# Altium schematic symbol library kmilo17pet-LT_OpAmp_LT1000.SchLib: 2280 symbols (part 27 of 79)
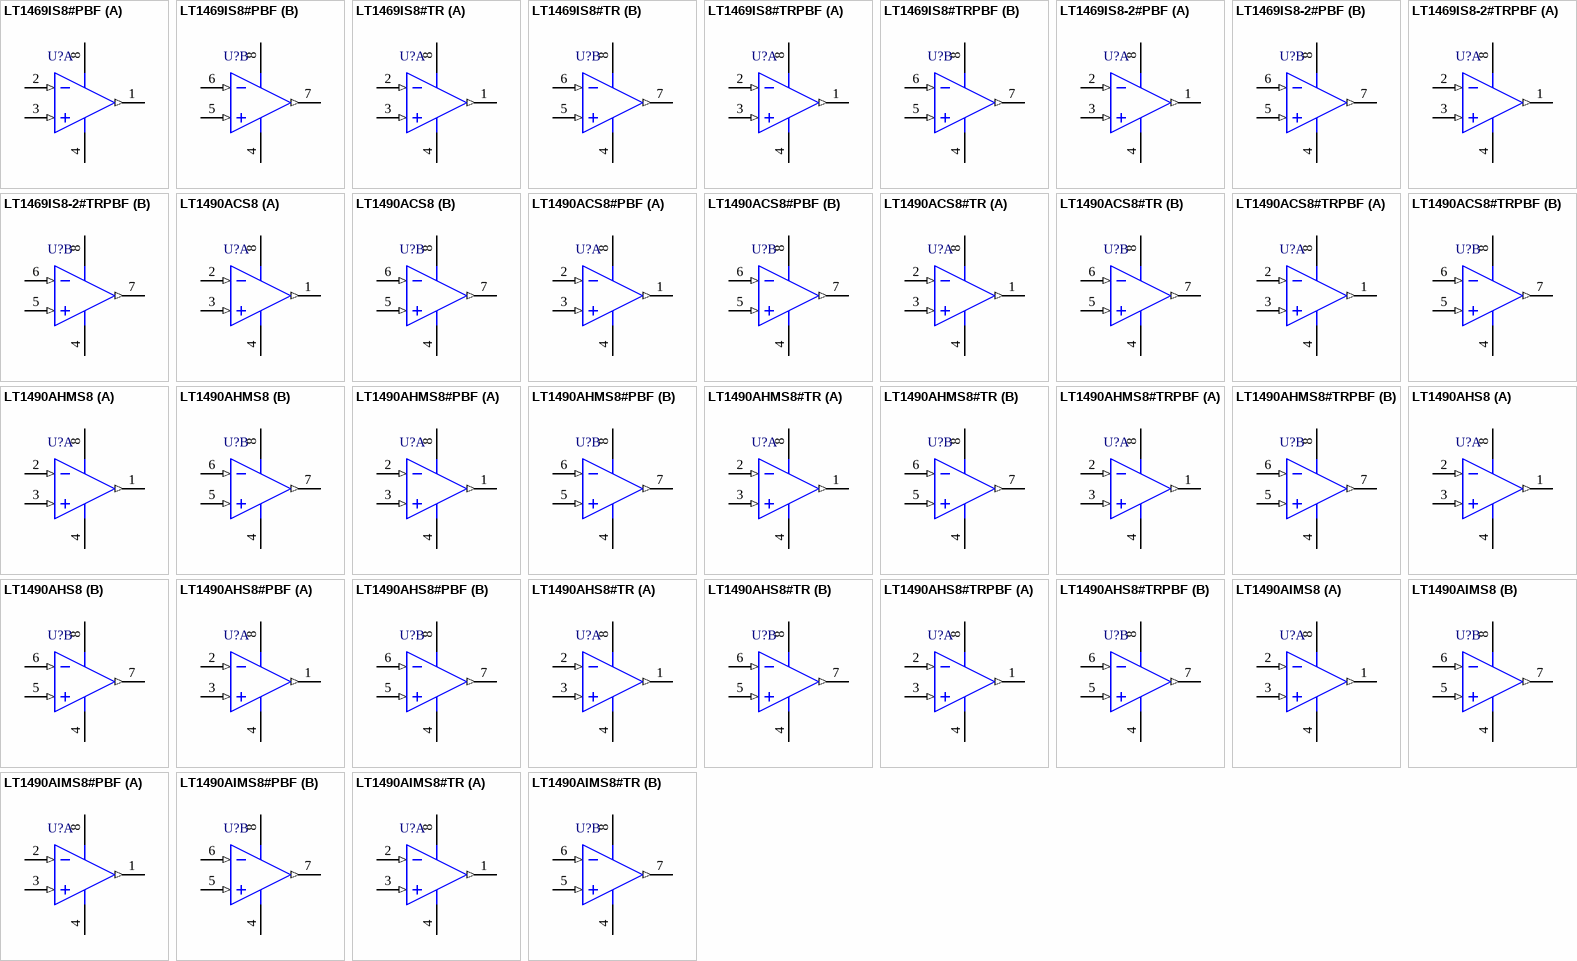
[diagram p131: symbols LT1469IS8#PBF to LT1490AIMS8#TR]

## LT1490ACS8#TRPBF
designator U?
Dual Channel, Operational Amplifier, RRIO, Over-The-Top, 0.18 MHz Typical GBW, 0.06 V/us Typical SR, 2 to 44 V, 8-Pin SOIC (S8-8), Commercial, Pb-Free, Reel; Linear Technology Part Number: LT1490A; Manufacturer: Linear Technology; PartNumber: LT1490ACS8#TRPBF; Channels (#): 2; GBW (MHz) Typical: 0.18; Is (mA) Typical: 0.04; SR (V/us) Typical: 0.06; Vos (mV) Typical: 0.11; Vs Max (V): 44; DatasheetVersion: Rev. D; PackageVersion: Rev G; PackageReference: LT-S8-8; PackageDescription: 8-Pin Plastic Small Outline, Body 4.9 x 3.9 mm, Pitch 1.27 mm; Supplier 1: Digi-Key; Supplier Part Number 1: LT1490ACS8#TRPBFTR-ND; Supplier 2: Digi-Key; Supplier Part Number 2: LT1490ACS8#TRPBFCT-ND; Supplier 3: Digi-Key; Supplier Part Number 3: LT1490ACS8#TRPBFDKR-ND; Supplier 4: Newark; Supplier Part Number 4: 57M4412; Packing: Reel; RoHS: Pb-Free; Type: VFB; Vs Min (V): 2; Mounting Technology: Surface Mount; ComponentLink1Description: Manufacturer URL; ComponentLink1URL: http://www.linear.com/; ComponentLink2Description: Datasheet; ComponentLink2URL: http://cds.linear.com/docs/en/datasheet/14901afd.pdf; ComponentLink3Description: Package Specification; ComponentLink3URL: http://cds.linear.com/docs/en/packaging/05081610_G_SO8.pdf
footprint LT-S8-8_N (SOIC, 8-Leads, Body 4.9x3.9mm, Pitch 1.27mm, IPC Medium Density)
footprint LT-S8-8_L (SOIC, 8-Leads, Body 4.9x3.9mm, Pitch 1.27mm, IPC High Density)
footprint LT-S8-8_M (SOIC, 8-Leads, Body 4.9x3.9mm, Pitch 1.27mm, IPC Low Density)
pins on every part: 4 V- (power), 8 V+ (power)
part A pins: 1 OUT A (out), 2 -IN A (in), 3 +IN A (in)
part B pins: 5 +IN B (in), 6 -IN B (in), 7 OUT B (out)

## LT1490AHMS8
designator U?
Dual Channel, Operational Amplifier, RRIO, Over-The-Top, 0.18 MHz Typical GBW, 0.06 V/us Typical SR, 2 to 44 V, 8-Pin SOP (MS8-8), High Temperature / Automotive; Linear Technology Part Number: LT1490A; Manufacturer: Linear Technology; PartNumber: LT1490AHMS8; Channels (#): 2; GBW (MHz) Typical: 0.18; Is (mA) Typical: 0.04; SR (V/us) Typical: 0.06; Vos (mV) Typical: 0.11; Vs Max (V): 44; DatasheetVersion: Rev. D; PackageVersion: Rev G; PackageReference: LT-MS8-8; PackageDescription: 8-Lead Plastic Small Outline, Body 3.9 x 4.9 mm, Pitch 1.27 mm; Supplier 1: Digi-Key; Supplier Part Number 1: LT1490AHMS8-ND; Type: VFB; Vs Min (V): 2; Mounting Technology: Surface Mount; ComponentLink1Description: Manufacturer URL; ComponentLink1URL: http://www.linear.com/; ComponentLink2Description: Datasheet; ComponentLink2URL: http://cds.linear.com/docs/en/datasheet/14901afd.pdf; ComponentLink3Description: Package Specification; ComponentLink3URL: http://cds.linear.com/docs/en/packaging/05081610_G_SO8.pdf
footprint LT-MS8-8_N (SOP, 8-Leads, Body 3x3mm, Pitch 0.65mm, IPC Medium Density)
footprint LT-MS8-8_L (SOP, 8-Leads, Body 3x3mm, Pitch 0.65mm, IPC High Density)
footprint LT-MS8-8_M (SOP, 8-Leads, Body 3x3mm, Pitch 0.65mm, IPC Low Density)
pins on every part: 4 V- (power), 8 V+ (power)
part A pins: 1 OUT A (out), 2 -IN A (in), 3 +IN A (in)
part B pins: 5 +IN B (in), 6 -IN B (in), 7 OUT B (out)

## LT1490AHMS8#PBF
designator U?
Dual Channel, Operational Amplifier, RRIO, Over-The-Top, 0.18 MHz Typical GBW, 0.06 V/us Typical SR, 2 to 44 V, 8-Pin SOP (MS8-8), High Temperature / Automotive, Pb-Free; Linear Technology Part Number: LT1490A; Manufacturer: Linear Technology; PartNumber: LT1490AHMS8#PBF; Channels (#): 2; GBW (MHz) Typical: 0.18; Is (mA) Typical: 0.04; SR (V/us) Typical: 0.06; Vos (mV) Typical: 0.11; Vs Max (V): 44; DatasheetVersion: Rev. D; PackageVersion: Rev G; PackageReference: LT-MS8-8; PackageDescription: 8-Lead Plastic Small Outline, Body 3.9 x 4.9 mm, Pitch 1.27 mm; Supplier 1: Digi-Key; Supplier Part Number 1: LT1490AHMS8#PBF-ND; Supplier 2: Newark; Supplier Part Number 2: 57M4414; RoHS: Pb-Free; Type: VFB; Vs Min (V): 2; Mounting Technology: Surface Mount; ComponentLink1Description: Manufacturer URL; ComponentLink1URL: http://www.linear.com/; ComponentLink2Description: Datasheet; ComponentLink2URL: http://cds.linear.com/docs/en/datasheet/14901afd.pdf; ComponentLink3Description: Package Specification; ComponentLink3URL: http://cds.linear.com/docs/en/packaging/05081610_G_SO8.pdf
footprint LT-MS8-8_N (SOP, 8-Leads, Body 3x3mm, Pitch 0.65mm, IPC Medium Density)
footprint LT-MS8-8_L (SOP, 8-Leads, Body 3x3mm, Pitch 0.65mm, IPC High Density)
footprint LT-MS8-8_M (SOP, 8-Leads, Body 3x3mm, Pitch 0.65mm, IPC Low Density)
pins on every part: 4 V- (power), 8 V+ (power)
part A pins: 1 OUT A (out), 2 -IN A (in), 3 +IN A (in)
part B pins: 5 +IN B (in), 6 -IN B (in), 7 OUT B (out)

## LT1490AHMS8#TR
designator U?
Dual Channel, Operational Amplifier, RRIO, Over-The-Top, 0.18 MHz Typical GBW, 0.06 V/us Typical SR, 2 to 44 V, 8-Pin SOP (MS8-8), High Temperature / Automotive, Reel; Linear Technology Part Number: LT1490A; Manufacturer: Linear Technology; PartNumber: LT1490AHMS8#TR; Channels (#): 2; GBW (MHz) Typical: 0.18; Is (mA) Typical: 0.04; SR (V/us) Typical: 0.06; Vos (mV) Typical: 0.11; Vs Max (V): 44; DatasheetVersion: Rev. D; PackageVersion: Rev G; PackageReference: LT-MS8-8; PackageDescription: 8-Lead Plastic Small Outline, Body 3.9 x 4.9 mm, Pitch 1.27 mm; Supplier 1: Digi-Key; Supplier Part Number 1: LT1490AHMS8#TR-ND; Packing: Reel; Type: VFB; Vs Min (V): 2; Mounting Technology: Surface Mount; ComponentLink1Description: Manufacturer URL; ComponentLink1URL: http://www.linear.com/; ComponentLink2Description: Datasheet; ComponentLink2URL: http://cds.linear.com/docs/en/datasheet/14901afd.pdf; ComponentLink3Description: Package Specification; ComponentLink3URL: http://cds.linear.com/docs/en/packaging/05081610_G_SO8.pdf
footprint LT-MS8-8_N (SOP, 8-Leads, Body 3x3mm, Pitch 0.65mm, IPC Medium Density)
footprint LT-MS8-8_L (SOP, 8-Leads, Body 3x3mm, Pitch 0.65mm, IPC High Density)
footprint LT-MS8-8_M (SOP, 8-Leads, Body 3x3mm, Pitch 0.65mm, IPC Low Density)
pins on every part: 4 V- (power), 8 V+ (power)
part A pins: 1 OUT A (out), 2 -IN A (in), 3 +IN A (in)
part B pins: 5 +IN B (in), 6 -IN B (in), 7 OUT B (out)

## LT1490AHMS8#TRPBF
designator U?
Dual Channel, Operational Amplifier, RRIO, Over-The-Top, 0.18 MHz Typical GBW, 0.06 V/us Typical SR, 2 to 44 V, 8-Pin SOP (MS8-8), High Temperature / Automotive, Pb-Free, Reel; Linear Technology Part Number: LT1490A; Manufacturer: Linear Technology; PartNumber: LT1490AHMS8#TRPBF; Channels (#): 2; GBW (MHz) Typical: 0.18; Is (mA) Typical: 0.04; SR (V/us) Typical: 0.06; Vos (mV) Typical: 0.11; Vs Max (V): 44; DatasheetVersion: Rev. D; PackageVersion: Rev G; PackageReference: LT-MS8-8; PackageDescription: 8-Lead Plastic Small Outline, Body 3.9 x 4.9 mm, Pitch 1.27 mm; Supplier 1: Digi-Key; Supplier Part Number 1: LT1490AHMS8#TRPBF-ND; Packing: Reel; RoHS: Pb-Free; Type: VFB; Vs Min (V): 2; Mounting Technology: Surface Mount; ComponentLink1Description: Manufacturer URL; ComponentLink1URL: http://www.linear.com/; ComponentLink2Description: Datasheet; ComponentLink2URL: http://cds.linear.com/docs/en/datasheet/14901afd.pdf; ComponentLink3Description: Package Specification; ComponentLink3URL: http://cds.linear.com/docs/en/packaging/05081610_G_SO8.pdf
footprint LT-MS8-8_N (SOP, 8-Leads, Body 3x3mm, Pitch 0.65mm, IPC Medium Density)
footprint LT-MS8-8_L (SOP, 8-Leads, Body 3x3mm, Pitch 0.65mm, IPC High Density)
footprint LT-MS8-8_M (SOP, 8-Leads, Body 3x3mm, Pitch 0.65mm, IPC Low Density)
pins on every part: 4 V- (power), 8 V+ (power)
part A pins: 1 OUT A (out), 2 -IN A (in), 3 +IN A (in)
part B pins: 5 +IN B (in), 6 -IN B (in), 7 OUT B (out)

## LT1490AHS8
designator U?
Dual Channel, Operational Amplifier, RRIO, Over-The-Top, 0.18 MHz Typical GBW, 0.06 V/us Typical SR, 2 to 44 V, 8-Pin SOIC (S8-8), High Temperature / Automotive; Linear Technology Part Number: LT1490A; Manufacturer: Linear Technology; PartNumber: LT1490AHS8; Channels (#): 2; GBW (MHz) Typical: 0.18; Is (mA) Typical: 0.04; SR (V/us) Typical: 0.06; Vos (mV) Typical: 0.11; Vs Max (V): 44; DatasheetVersion: Rev. D; PackageVersion: Rev G; PackageReference: LT-S8-8; PackageDescription: 8-Pin Plastic Small Outline, Body 4.9 x 3.9 mm, Pitch 1.27 mm; Supplier 1: Digi-Key; Supplier Part Number 1: LT1490AHS8-ND; Type: VFB; Vs Min (V): 2; Mounting Technology: Surface Mount; ComponentLink1Description: Manufacturer URL; ComponentLink1URL: http://www.linear.com/; ComponentLink2Description: Datasheet; ComponentLink2URL: http://cds.linear.com/docs/en/datasheet/14901afd.pdf; ComponentLink3Description: Package Specification; ComponentLink3URL: http://cds.linear.com/docs/en/packaging/05081610_G_SO8.pdf
footprint LT-S8-8_N (SOIC, 8-Leads, Body 4.9x3.9mm, Pitch 1.27mm, IPC Medium Density)
footprint LT-S8-8_L (SOIC, 8-Leads, Body 4.9x3.9mm, Pitch 1.27mm, IPC High Density)
footprint LT-S8-8_M (SOIC, 8-Leads, Body 4.9x3.9mm, Pitch 1.27mm, IPC Low Density)
pins on every part: 4 V- (power), 8 V+ (power)
part A pins: 1 OUT A (out), 2 -IN A (in), 3 +IN A (in)
part B pins: 5 +IN B (in), 6 -IN B (in), 7 OUT B (out)

## LT1490AHS8#PBF
designator U?
Dual Channel, Operational Amplifier, RRIO, Over-The-Top, 0.18 MHz Typical GBW, 0.06 V/us Typical SR, 2 to 44 V, 8-Pin SOIC (S8-8), High Temperature / Automotive, Pb-Free; Linear Technology Part Number: LT1490A; Manufacturer: Linear Technology; PartNumber: LT1490AHS8#PBF; Channels (#): 2; GBW (MHz) Typical: 0.18; Is (mA) Typical: 0.04; SR (V/us) Typical: 0.06; Vos (mV) Typical: 0.11; Vs Max (V): 44; DatasheetVersion: Rev. D; PackageVersion: Rev G; PackageReference: LT-S8-8; PackageDescription: 8-Pin Plastic Small Outline, Body 4.9 x 3.9 mm, Pitch 1.27 mm; Supplier 1: Digi-Key; Supplier Part Number 1: LT1490AHS8#PBF-ND; Supplier 2: Farnell; Supplier Part Number 2: 2252719; Supplier 3: Newark; Supplier Part Number 3: 57M4418; RoHS: Pb-Free; Type: VFB; Vs Min (V): 2; Mounting Technology: Surface Mount; ComponentLink1Description: Manufacturer URL; ComponentLink1URL: http://www.linear.com/; ComponentLink2Description: Datasheet; ComponentLink2URL: http://cds.linear.com/docs/en/datasheet/14901afd.pdf; ComponentLink3Description: Package Specification; ComponentLink3URL: http://cds.linear.com/docs/en/packaging/05081610_G_SO8.pdf
footprint LT-S8-8_N (SOIC, 8-Leads, Body 4.9x3.9mm, Pitch 1.27mm, IPC Medium Density)
footprint LT-S8-8_L (SOIC, 8-Leads, Body 4.9x3.9mm, Pitch 1.27mm, IPC High Density)
footprint LT-S8-8_M (SOIC, 8-Leads, Body 4.9x3.9mm, Pitch 1.27mm, IPC Low Density)
pins on every part: 4 V- (power), 8 V+ (power)
part A pins: 1 OUT A (out), 2 -IN A (in), 3 +IN A (in)
part B pins: 5 +IN B (in), 6 -IN B (in), 7 OUT B (out)

## LT1490AHS8#TR
designator U?
Dual Channel, Operational Amplifier, RRIO, Over-The-Top, 0.18 MHz Typical GBW, 0.06 V/us Typical SR, 2 to 44 V, 8-Pin SOIC (S8-8), High Temperature / Automotive, Reel; Linear Technology Part Number: LT1490A; Manufacturer: Linear Technology; PartNumber: LT1490AHS8#TR; Channels (#): 2; GBW (MHz) Typical: 0.18; Is (mA) Typical: 0.04; SR (V/us) Typical: 0.06; Vos (mV) Typical: 0.11; Vs Max (V): 44; DatasheetVersion: Rev. D; PackageVersion: Rev G; PackageReference: LT-S8-8; PackageDescription: 8-Pin Plastic Small Outline, Body 4.9 x 3.9 mm, Pitch 1.27 mm; Supplier 1: Digi-Key; Supplier Part Number 1: LT1490AHS8#TR-ND; Packing: Reel; Type: VFB; Vs Min (V): 2; Mounting Technology: Surface Mount; ComponentLink1Description: Manufacturer URL; ComponentLink1URL: http://www.linear.com/; ComponentLink2Description: Datasheet; ComponentLink2URL: http://cds.linear.com/docs/en/datasheet/14901afd.pdf; ComponentLink3Description: Package Specification; ComponentLink3URL: http://cds.linear.com/docs/en/packaging/05081610_G_SO8.pdf
footprint LT-S8-8_N (SOIC, 8-Leads, Body 4.9x3.9mm, Pitch 1.27mm, IPC Medium Density)
footprint LT-S8-8_L (SOIC, 8-Leads, Body 4.9x3.9mm, Pitch 1.27mm, IPC High Density)
footprint LT-S8-8_M (SOIC, 8-Leads, Body 4.9x3.9mm, Pitch 1.27mm, IPC Low Density)
pins on every part: 4 V- (power), 8 V+ (power)
part A pins: 1 OUT A (out), 2 -IN A (in), 3 +IN A (in)
part B pins: 5 +IN B (in), 6 -IN B (in), 7 OUT B (out)

## LT1490AHS8#TRPBF
designator U?
Dual Channel, Operational Amplifier, RRIO, Over-The-Top, 0.18 MHz Typical GBW, 0.06 V/us Typical SR, 2 to 44 V, 8-Pin SOIC (S8-8), High Temperature / Automotive, Pb-Free, Reel; Linear Technology Part Number: LT1490A; Manufacturer: Linear Technology; PartNumber: LT1490AHS8#TRPBF; Channels (#): 2; GBW (MHz) Typical: 0.18; Is (mA) Typical: 0.04; SR (V/us) Typical: 0.06; Vos (mV) Typical: 0.11; Vs Max (V): 44; DatasheetVersion: Rev. D; PackageVersion: Rev G; PackageReference: LT-S8-8; PackageDescription: 8-Pin Plastic Small Outline, Body 4.9 x 3.9 mm, Pitch 1.27 mm; Supplier 1: Digi-Key; Supplier Part Number 1: LT1490AHS8#TRPBF-ND; Supplier 2: Newark; Supplier Part Number 2: 57M4420; Packing: Reel; RoHS: Pb-Free; Type: VFB; Vs Min (V): 2; Mounting Technology: Surface Mount; ComponentLink1Description: Manufacturer URL; ComponentLink1URL: http://www.linear.com/; ComponentLink2Description: Datasheet; ComponentLink2URL: http://cds.linear.com/docs/en/datasheet/14901afd.pdf; ComponentLink3Description: Package Specification; ComponentLink3URL: http://cds.linear.com/docs/en/packaging/05081610_G_SO8.pdf
footprint LT-S8-8_N (SOIC, 8-Leads, Body 4.9x3.9mm, Pitch 1.27mm, IPC Medium Density)
footprint LT-S8-8_L (SOIC, 8-Leads, Body 4.9x3.9mm, Pitch 1.27mm, IPC High Density)
footprint LT-S8-8_M (SOIC, 8-Leads, Body 4.9x3.9mm, Pitch 1.27mm, IPC Low Density)
pins on every part: 4 V- (power), 8 V+ (power)
part A pins: 1 OUT A (out), 2 -IN A (in), 3 +IN A (in)
part B pins: 5 +IN B (in), 6 -IN B (in), 7 OUT B (out)

## LT1490AIMS8
designator U?
Dual Channel, Operational Amplifier, RRIO, Over-The-Top, 0.18 MHz Typical GBW, 0.06 V/us Typical SR, 2 to 44 V, 8-Pin SOP (MS8-8), Industrial; Linear Technology Part Number: LT1490A; Manufacturer: Linear Technology; PartNumber: LT1490AIMS8; Channels (#): 2; GBW (MHz) Typical: 0.18; Is (mA) Typical: 0.04; SR (V/us) Typical: 0.06; Vos (mV) Typical: 0.11; Vs Max (V): 44; DatasheetVersion: Rev. D; PackageVersion: Rev G; PackageReference: LT-MS8-8; PackageDescription: 8-Lead Plastic Small Outline, Body 3.9 x 4.9 mm, Pitch 1.27 mm; Supplier 1: Digi-Key; Supplier Part Number 1: LT1490AIMS8-ND; Type: VFB; Vs Min (V): 2; Mounting Technology: Surface Mount; ComponentLink1Description: Manufacturer URL; ComponentLink1URL: http://www.linear.com/; ComponentLink2Description: Datasheet; ComponentLink2URL: http://cds.linear.com/docs/en/datasheet/14901afd.pdf; ComponentLink3Description: Package Specification; ComponentLink3URL: http://cds.linear.com/docs/en/packaging/05081610_G_SO8.pdf
footprint LT-MS8-8_N (SOP, 8-Leads, Body 3x3mm, Pitch 0.65mm, IPC Medium Density)
footprint LT-MS8-8_L (SOP, 8-Leads, Body 3x3mm, Pitch 0.65mm, IPC High Density)
footprint LT-MS8-8_M (SOP, 8-Leads, Body 3x3mm, Pitch 0.65mm, IPC Low Density)
pins on every part: 4 V- (power), 8 V+ (power)
part A pins: 1 OUT A (out), 2 -IN A (in), 3 +IN A (in)
part B pins: 5 +IN B (in), 6 -IN B (in), 7 OUT B (out)

## LT1490AIMS8#PBF
designator U?
Dual Channel, Operational Amplifier, RRIO, Over-The-Top, 0.18 MHz Typical GBW, 0.06 V/us Typical SR, 2 to 44 V, 8-Pin SOP (MS8-8), Industrial, Pb-Free; Linear Technology Part Number: LT1490A; Manufacturer: Linear Technology; PartNumber: LT1490AIMS8#PBF; Channels (#): 2; GBW (MHz) Typical: 0.18; Is (mA) Typical: 0.04; SR (V/us) Typical: 0.06; Vos (mV) Typical: 0.11; Vs Max (V): 44; DatasheetVersion: Rev. D; PackageVersion: Rev G; PackageReference: LT-MS8-8; PackageDescription: 8-Lead Plastic Small Outline, Body 3.9 x 4.9 mm, Pitch 1.27 mm; Supplier 1: Digi-Key; Supplier Part Number 1: LT1490AIMS8#PBF-ND; Supplier 2: Farnell; Supplier Part Number 2: 1330665; Supplier 3: Newark; Supplier Part Number 3: 57M4426; RoHS: Pb-Free; Type: VFB; Vs Min (V): 2; Mounting Technology: Surface Mount; ComponentLink1Description: Manufacturer URL; ComponentLink1URL: http://www.linear.com/; ComponentLink2Description: Datasheet; ComponentLink2URL: http://cds.linear.com/docs/en/datasheet/14901afd.pdf; ComponentLink3Description: Package Specification; ComponentLink3URL: http://cds.linear.com/docs/en/packaging/05081610_G_SO8.pdf
footprint LT-MS8-8_N (SOP, 8-Leads, Body 3x3mm, Pitch 0.65mm, IPC Medium Density)
footprint LT-MS8-8_L (SOP, 8-Leads, Body 3x3mm, Pitch 0.65mm, IPC High Density)
footprint LT-MS8-8_M (SOP, 8-Leads, Body 3x3mm, Pitch 0.65mm, IPC Low Density)
pins on every part: 4 V- (power), 8 V+ (power)
part A pins: 1 OUT A (out), 2 -IN A (in), 3 +IN A (in)
part B pins: 5 +IN B (in), 6 -IN B (in), 7 OUT B (out)

## LT1490AIMS8#TR
designator U?
Dual Channel, Operational Amplifier, RRIO, Over-The-Top, 0.18 MHz Typical GBW, 0.06 V/us Typical SR, 2 to 44 V, 8-Pin SOP (MS8-8), Industrial, Reel; Linear Technology Part Number: LT1490A; Manufacturer: Linear Technology; PartNumber: LT1490AIMS8#TR; Channels (#): 2; GBW (MHz) Typical: 0.18; Is (mA) Typical: 0.04; SR (V/us) Typical: 0.06; Vos (mV) Typical: 0.11; Vs Max (V): 44; DatasheetVersion: Rev. D; PackageVersion: Rev G; PackageReference: LT-MS8-8; PackageDescription: 8-Lead Plastic Small Outline, Body 3.9 x 4.9 mm, Pitch 1.27 mm; Supplier 1: Digi-Key; Supplier Part Number 1: LT1490AIMS8#TR-ND; Packing: Reel; Type: VFB; Vs Min (V): 2; Mounting Technology: Surface Mount; ComponentLink1Description: Manufacturer URL; ComponentLink1URL: http://www.linear.com/; ComponentLink2Description: Datasheet; ComponentLink2URL: http://cds.linear.com/docs/en/datasheet/14901afd.pdf; ComponentLink3Description: Package Specification; ComponentLink3URL: http://cds.linear.com/docs/en/packaging/05081610_G_SO8.pdf
footprint LT-MS8-8_N (SOP, 8-Leads, Body 3x3mm, Pitch 0.65mm, IPC Medium Density)
footprint LT-MS8-8_L (SOP, 8-Leads, Body 3x3mm, Pitch 0.65mm, IPC High Density)
footprint LT-MS8-8_M (SOP, 8-Leads, Body 3x3mm, Pitch 0.65mm, IPC Low Density)
pins on every part: 4 V- (power), 8 V+ (power)
part A pins: 1 OUT A (out), 2 -IN A (in), 3 +IN A (in)
part B pins: 5 +IN B (in), 6 -IN B (in), 7 OUT B (out)

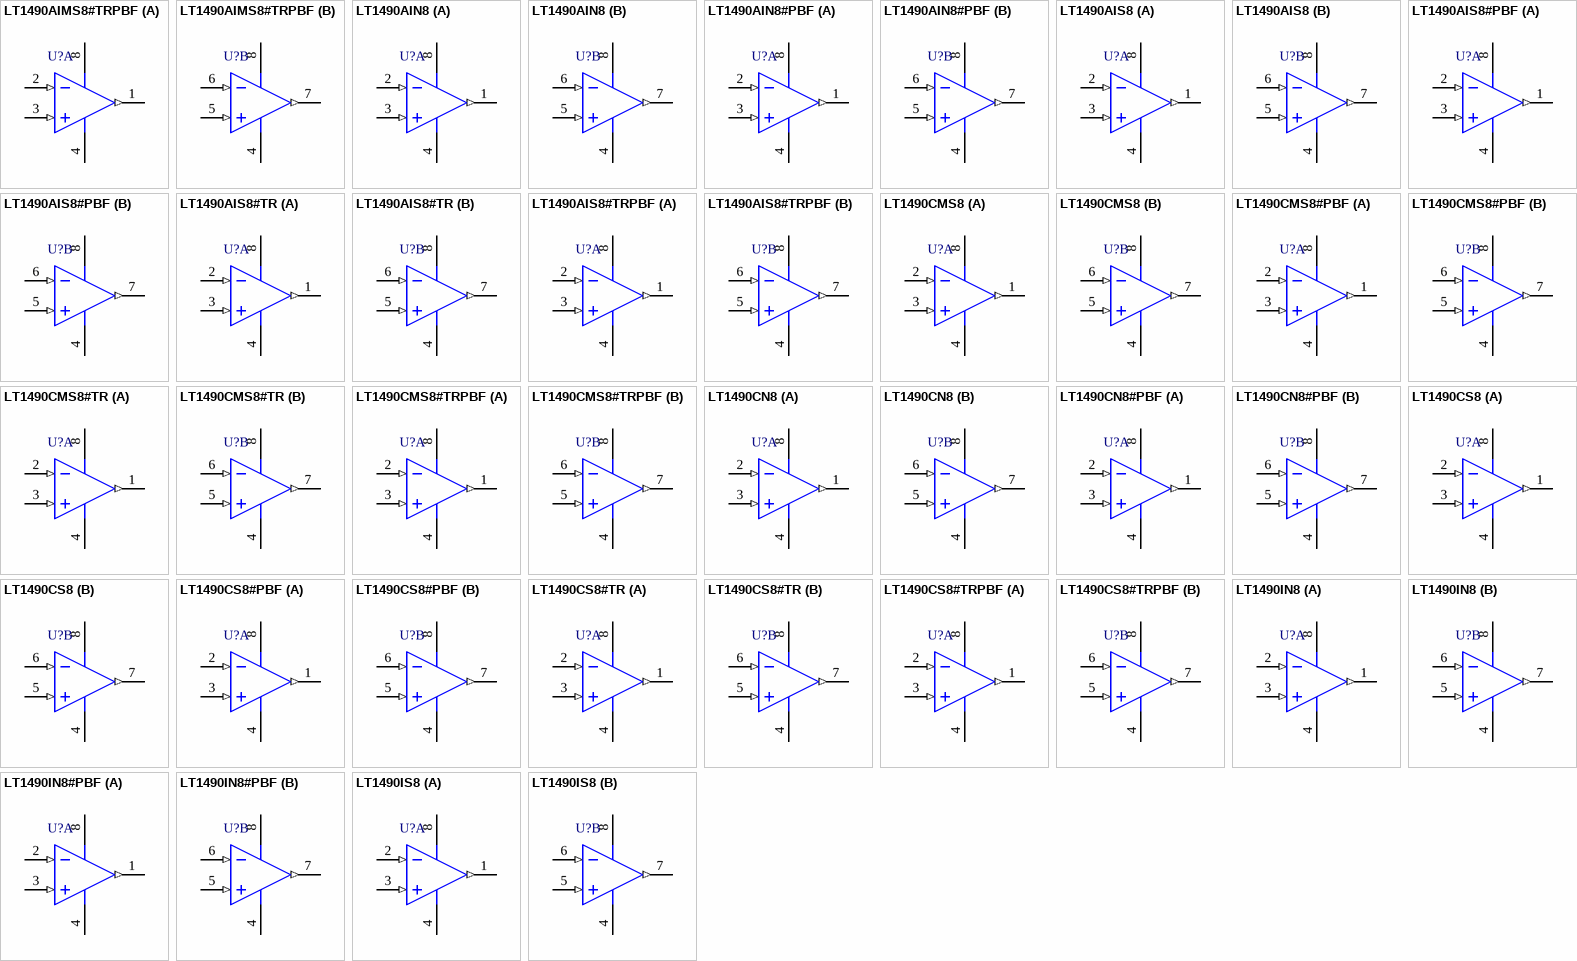
[diagram p44: symbols LT1490AIMS8#TRPBF to LT1490IS8]

## LT1490AIMS8#TRPBF
designator U?
Dual Channel, Operational Amplifier, RRIO, Over-The-Top, 0.18 MHz Typical GBW, 0.06 V/us Typical SR, 2 to 44 V, 8-Pin SOP (MS8-8), Industrial, Pb-Free, Reel; Linear Technology Part Number: LT1490A; Manufacturer: Linear Technology; PartNumber: LT1490AIMS8#TRPBF; Channels (#): 2; GBW (MHz) Typical: 0.18; Is (mA) Typical: 0.04; SR (V/us) Typical: 0.06; Vos (mV) Typical: 0.11; Vs Max (V): 44; DatasheetVersion: Rev. D; PackageVersion: Rev G; PackageReference: LT-MS8-8; PackageDescription: 8-Lead Plastic Small Outline, Body 3.9 x 4.9 mm, Pitch 1.27 mm; Supplier 1: Digi-Key; Supplier Part Number 1: LT1490AIMS8#TRPBF-ND; Supplier 2: Newark; Supplier Part Number 2: 57M4428; Packing: Reel; RoHS: Pb-Free; Type: VFB; Vs Min (V): 2; Mounting Technology: Surface Mount; ComponentLink1Description: Manufacturer URL; ComponentLink1URL: http://www.linear.com/; ComponentLink2Description: Datasheet; ComponentLink2URL: http://cds.linear.com/docs/en/datasheet/14901afd.pdf; ComponentLink3Description: Package Specification; ComponentLink3URL: http://cds.linear.com/docs/en/packaging/05081610_G_SO8.pdf
footprint LT-MS8-8_N (SOP, 8-Leads, Body 3x3mm, Pitch 0.65mm, IPC Medium Density)
footprint LT-MS8-8_L (SOP, 8-Leads, Body 3x3mm, Pitch 0.65mm, IPC High Density)
footprint LT-MS8-8_M (SOP, 8-Leads, Body 3x3mm, Pitch 0.65mm, IPC Low Density)
pins on every part: 4 V- (power), 8 V+ (power)
part A pins: 1 OUT A (out), 2 -IN A (in), 3 +IN A (in)
part B pins: 5 +IN B (in), 6 -IN B (in), 7 OUT B (out)

## LT1490AIN8
designator U?
Dual Channel, Operational Amplifier, RRIO, Over-The-Top, 0.18 MHz Typical GBW, 0.06 V/us Typical SR, 2 to 44 V, 8-Pin DIP (N8-8), Industrial; Linear Technology Part Number: LT1490A; Manufacturer: Linear Technology; PartNumber: LT1490AIN8; Channels (#): 2; GBW (MHz) Typical: 0.18; Is (mA) Typical: 0.04; SR (V/us) Typical: 0.06; Vos (mV) Typical: 0.11; Vs Max (V): 44; DatasheetVersion: Rev. D; PackageVersion: Rev I; PackageReference: LT-N8-8; PackageDescription: 8-Lead PDIP, Body 10.16 x 6.48 mm, Pitch 2.54 mm; Supplier 1: Digi-Key; Supplier Part Number 1: LT1490AIN8-ND; Type: VFB; Vs Min (V): 2; Mounting Technology: Surface Mount; ComponentLink1Description: Manufacturer URL; ComponentLink1URL: http://www.linear.com/; ComponentLink2Description: Datasheet; ComponentLink2URL: http://cds.linear.com/docs/en/datasheet/14901afd.pdf; ComponentLink3Description: Package Specification; ComponentLink3URL: http://cds.linear.com/docs/en/packaging/05081510_I_N8.pdf
footprint LT-N8-8 (DIP, 8-Leads, Body 10.16x6.48mm, Pitch 2.54mm)
pins on every part: 4 V- (power), 8 V+ (power)
part A pins: 1 OUT A (out), 2 -IN A (in), 3 +IN A (in)
part B pins: 5 +IN B (in), 6 -IN B (in), 7 OUT B (out)

## LT1490AIN8#PBF
designator U?
Dual Channel, Operational Amplifier, RRIO, Over-The-Top, 0.18 MHz Typical GBW, 0.06 V/us Typical SR, 2 to 44 V, 8-Pin DIP (N8-8), Industrial, Pb-Free; Linear Technology Part Number: LT1490A; Manufacturer: Linear Technology; PartNumber: LT1490AIN8#PBF; Channels (#): 2; GBW (MHz) Typical: 0.18; Is (mA) Typical: 0.04; SR (V/us) Typical: 0.06; Vos (mV) Typical: 0.11; Vs Max (V): 44; DatasheetVersion: Rev. D; PackageVersion: Rev I; PackageReference: LT-N8-8; PackageDescription: 8-Lead PDIP, Body 10.16 x 6.48 mm, Pitch 2.54 mm; Supplier 1: Digi-Key; Supplier Part Number 1: LT1490AIN8#PBF-ND; Supplier 2: Farnell; Supplier Part Number 2: 9560548; RoHS: Pb-Free; Type: VFB; Vs Min (V): 2; Mounting Technology: Through Hole; ComponentLink1Description: Manufacturer URL; ComponentLink1URL: http://www.linear.com/; ComponentLink2Description: Datasheet; ComponentLink2URL: http://cds.linear.com/docs/en/datasheet/14901afd.pdf; ComponentLink3Description: Package Specification; ComponentLink3URL: http://cds.linear.com/docs/en/packaging/05081510_I_N8.pdf
footprint LT-N8-8 (DIP, 8-Leads, Body 10.16x6.48mm, Pitch 2.54mm)
pins on every part: 4 V- (power), 8 V+ (power)
part A pins: 1 OUT A (out), 2 -IN A (in), 3 +IN A (in)
part B pins: 5 +IN B (in), 6 -IN B (in), 7 OUT B (out)

## LT1490AIS8
designator U?
Dual Channel, Operational Amplifier, RRIO, Over-The-Top, 0.18 MHz Typical GBW, 0.06 V/us Typical SR, 2 to 44 V, 8-Pin SOIC (S8-8), Industrial; Linear Technology Part Number: LT1490A; Manufacturer: Linear Technology; PartNumber: LT1490AIS8; Channels (#): 2; GBW (MHz) Typical: 0.18; Is (mA) Typical: 0.04; SR (V/us) Typical: 0.06; Vos (mV) Typical: 0.11; Vs Max (V): 44; DatasheetVersion: Rev. D; PackageVersion: Rev G; PackageReference: LT-S8-8; PackageDescription: 8-Pin Plastic Small Outline, Body 4.9 x 3.9 mm, Pitch 1.27 mm; Supplier 1: Digi-Key; Supplier Part Number 1: LT1490AIS8-ND; Supplier 2: Newark; Supplier Part Number 2: 57M4431; Type: VFB; Vs Min (V): 2; Mounting Technology: Surface Mount; ComponentLink1Description: Manufacturer URL; ComponentLink1URL: http://www.linear.com/; ComponentLink2Description: Datasheet; ComponentLink2URL: http://cds.linear.com/docs/en/datasheet/14901afd.pdf; ComponentLink3Description: Package Specification; ComponentLink3URL: http://cds.linear.com/docs/en/packaging/05081610_G_SO8.pdf
footprint LT-S8-8_N (SOIC, 8-Leads, Body 4.9x3.9mm, Pitch 1.27mm, IPC Medium Density)
footprint LT-S8-8_L (SOIC, 8-Leads, Body 4.9x3.9mm, Pitch 1.27mm, IPC High Density)
footprint LT-S8-8_M (SOIC, 8-Leads, Body 4.9x3.9mm, Pitch 1.27mm, IPC Low Density)
pins on every part: 4 V- (power), 8 V+ (power)
part A pins: 1 OUT A (out), 2 -IN A (in), 3 +IN A (in)
part B pins: 5 +IN B (in), 6 -IN B (in), 7 OUT B (out)

## LT1490AIS8#PBF
designator U?
Dual Channel, Operational Amplifier, RRIO, Over-The-Top, 0.18 MHz Typical GBW, 0.06 V/us Typical SR, 2 to 44 V, 8-Pin SOIC (S8-8), Industrial, Pb-Free; Linear Technology Part Number: LT1490A; Manufacturer: Linear Technology; PartNumber: LT1490AIS8#PBF; Channels (#): 2; GBW (MHz) Typical: 0.18; Is (mA) Typical: 0.04; SR (V/us) Typical: 0.06; Vos (mV) Typical: 0.11; Vs Max (V): 44; DatasheetVersion: Rev. D; PackageVersion: Rev G; PackageReference: LT-S8-8; PackageDescription: 8-Pin Plastic Small Outline, Body 4.9 x 3.9 mm, Pitch 1.27 mm; Supplier 1: Digi-Key; Supplier Part Number 1: LT1490AIS8#PBF-ND; Supplier 2: Farnell; Supplier Part Number 2: 2252721; Supplier 3: Newark; Supplier Part Number 3: 57M4432; RoHS: Pb-Free; Type: VFB; Vs Min (V): 2; Mounting Technology: Surface Mount; ComponentLink1Description: Manufacturer URL; ComponentLink1URL: http://www.linear.com/; ComponentLink2Description: Datasheet; ComponentLink2URL: http://cds.linear.com/docs/en/datasheet/14901afd.pdf; ComponentLink3Description: Package Specification; ComponentLink3URL: http://cds.linear.com/docs/en/packaging/05081610_G_SO8.pdf
footprint LT-S8-8_N (SOIC, 8-Leads, Body 4.9x3.9mm, Pitch 1.27mm, IPC Medium Density)
footprint LT-S8-8_L (SOIC, 8-Leads, Body 4.9x3.9mm, Pitch 1.27mm, IPC High Density)
footprint LT-S8-8_M (SOIC, 8-Leads, Body 4.9x3.9mm, Pitch 1.27mm, IPC Low Density)
pins on every part: 4 V- (power), 8 V+ (power)
part A pins: 1 OUT A (out), 2 -IN A (in), 3 +IN A (in)
part B pins: 5 +IN B (in), 6 -IN B (in), 7 OUT B (out)

## LT1490AIS8#TR
designator U?
Dual Channel, Operational Amplifier, RRIO, Over-The-Top, 0.18 MHz Typical GBW, 0.06 V/us Typical SR, 2 to 44 V, 8-Pin SOIC (S8-8), Industrial, Reel; Linear Technology Part Number: LT1490A; Manufacturer: Linear Technology; PartNumber: LT1490AIS8#TR; Channels (#): 2; GBW (MHz) Typical: 0.18; Is (mA) Typical: 0.04; SR (V/us) Typical: 0.06; Vos (mV) Typical: 0.11; Vs Max (V): 44; DatasheetVersion: Rev. D; PackageVersion: Rev G; PackageReference: LT-S8-8; PackageDescription: 8-Pin Plastic Small Outline, Body 4.9 x 3.9 mm, Pitch 1.27 mm; Supplier 1: Digi-Key; Supplier Part Number 1: LT1490AIS8#TR-ND; Supplier 2: Newark; Supplier Part Number 2: 57M4433; Packing: Reel; Type: VFB; Vs Min (V): 2; Mounting Technology: Surface Mount; ComponentLink1Description: Manufacturer URL; ComponentLink1URL: http://www.linear.com/; ComponentLink2Description: Datasheet; ComponentLink2URL: http://cds.linear.com/docs/en/datasheet/14901afd.pdf; ComponentLink3Description: Package Specification; ComponentLink3URL: http://cds.linear.com/docs/en/packaging/05081610_G_SO8.pdf
footprint LT-S8-8_N (SOIC, 8-Leads, Body 4.9x3.9mm, Pitch 1.27mm, IPC Medium Density)
footprint LT-S8-8_L (SOIC, 8-Leads, Body 4.9x3.9mm, Pitch 1.27mm, IPC High Density)
footprint LT-S8-8_M (SOIC, 8-Leads, Body 4.9x3.9mm, Pitch 1.27mm, IPC Low Density)
pins on every part: 4 V- (power), 8 V+ (power)
part A pins: 1 OUT A (out), 2 -IN A (in), 3 +IN A (in)
part B pins: 5 +IN B (in), 6 -IN B (in), 7 OUT B (out)

## LT1490AIS8#TRPBF
designator U?
Dual Channel, Operational Amplifier, RRIO, Over-The-Top, 0.18 MHz Typical GBW, 0.06 V/us Typical SR, 2 to 44 V, 8-Pin SOIC (S8-8), Industrial, Pb-Free, Reel; Linear Technology Part Number: LT1490A; Manufacturer: Linear Technology; PartNumber: LT1490AIS8#TRPBF; Channels (#): 2; GBW (MHz) Typical: 0.18; Is (mA) Typical: 0.04; SR (V/us) Typical: 0.06; Vos (mV) Typical: 0.11; Vs Max (V): 44; DatasheetVersion: Rev. D; PackageVersion: Rev G; PackageReference: LT-S8-8; PackageDescription: 8-Pin Plastic Small Outline, Body 4.9 x 3.9 mm, Pitch 1.27 mm; Supplier 1: Digi-Key; Supplier Part Number 1: LT1490AIS8#TRPBF-ND; Supplier 2: Newark; Supplier Part Number 2: 57M4434; Packing: Reel; RoHS: Pb-Free; Type: VFB; Vs Min (V): 2; Mounting Technology: Surface Mount; ComponentLink1Description: Manufacturer URL; ComponentLink1URL: http://www.linear.com/; ComponentLink2Description: Datasheet; ComponentLink2URL: http://cds.linear.com/docs/en/datasheet/14901afd.pdf; ComponentLink3Description: Package Specification; ComponentLink3URL: http://cds.linear.com/docs/en/packaging/05081610_G_SO8.pdf
footprint LT-S8-8_N (SOIC, 8-Leads, Body 4.9x3.9mm, Pitch 1.27mm, IPC Medium Density)
footprint LT-S8-8_L (SOIC, 8-Leads, Body 4.9x3.9mm, Pitch 1.27mm, IPC High Density)
footprint LT-S8-8_M (SOIC, 8-Leads, Body 4.9x3.9mm, Pitch 1.27mm, IPC Low Density)
pins on every part: 4 V- (power), 8 V+ (power)
part A pins: 1 OUT A (out), 2 -IN A (in), 3 +IN A (in)
part B pins: 5 +IN B (in), 6 -IN B (in), 7 OUT B (out)

## LT1490CMS8
designator U?
Dual Channel, Operational Amplifier, RRIO, Over-The-Top, 0.18 MHz Typical GBW, 0.06 V/us Typical SR, 2 to 44 V, 8-Pin SOP (MS8-8), Commercial; Linear Technology Part Number: LT1490A; Manufacturer: Linear Technology; PartNumber: LT1490CMS8; Channels (#): 2; GBW (MHz) Typical: 0.18; Is (mA) Typical: 0.04; SR (V/us) Typical: 0.06; Vos (mV) Typical: 0.11; Vs Max (V): 44; DatasheetVersion: Rev. D; PackageVersion: Rev G; PackageReference: LT-MS8-8; PackageDescription: 8-Lead Plastic Small Outline, Body 3.9 x 4.9 mm, Pitch 1.27 mm; Supplier 1: Digi-Key; Supplier Part Number 1: LT1490CMS8-ND; Type: VFB; Vs Min (V): 2; Mounting Technology: Surface Mount; ComponentLink1Description: Manufacturer URL; ComponentLink1URL: http://www.linear.com/; ComponentLink2Description: Datasheet; ComponentLink2URL: http://cds.linear.com/docs/en/datasheet/14901afd.pdf; ComponentLink3Description: Package Specification; ComponentLink3URL: http://cds.linear.com/docs/en/packaging/05081610_G_SO8.pdf
footprint LT-MS8-8_N (SOP, 8-Leads, Body 3x3mm, Pitch 0.65mm, IPC Medium Density)
footprint LT-MS8-8_L (SOP, 8-Leads, Body 3x3mm, Pitch 0.65mm, IPC High Density)
footprint LT-MS8-8_M (SOP, 8-Leads, Body 3x3mm, Pitch 0.65mm, IPC Low Density)
pins on every part: 4 V- (power), 8 V+ (power)
part A pins: 1 OUT A (out), 2 -IN A (in), 3 +IN A (in)
part B pins: 5 +IN B (in), 6 -IN B (in), 7 OUT B (out)

## LT1490CMS8#PBF
designator U?
Dual Channel, Operational Amplifier, RRIO, Over-The-Top, 0.18 MHz Typical GBW, 0.06 V/us Typical SR, 2 to 44 V, 8-Pin SOP (MS8-8), Commercial, Pb-Free; Linear Technology Part Number: LT1490A; Manufacturer: Linear Technology; PartNumber: LT1490CMS8#PBF; Channels (#): 2; GBW (MHz) Typical: 0.18; Is (mA) Typical: 0.04; SR (V/us) Typical: 0.06; Vos (mV) Typical: 0.11; Vs Max (V): 44; DatasheetVersion: Rev. D; PackageVersion: Rev G; PackageReference: LT-MS8-8; PackageDescription: 8-Lead Plastic Small Outline, Body 3.9 x 4.9 mm, Pitch 1.27 mm; Supplier 1: Digi-Key; Supplier Part Number 1: LT1490CMS8#PBF-ND; Supplier 2: Farnell; Supplier Part Number 2: 1330666; RoHS: Pb-Free; Type: VFB; Vs Min (V): 2; Mounting Technology: Surface Mount; ComponentLink1Description: Manufacturer URL; ComponentLink1URL: http://www.linear.com/; ComponentLink2Description: Datasheet; ComponentLink2URL: http://cds.linear.com/docs/en/datasheet/14901afd.pdf; ComponentLink3Description: Package Specification; ComponentLink3URL: http://cds.linear.com/docs/en/packaging/05081610_G_SO8.pdf
footprint LT-MS8-8_N (SOP, 8-Leads, Body 3x3mm, Pitch 0.65mm, IPC Medium Density)
footprint LT-MS8-8_L (SOP, 8-Leads, Body 3x3mm, Pitch 0.65mm, IPC High Density)
footprint LT-MS8-8_M (SOP, 8-Leads, Body 3x3mm, Pitch 0.65mm, IPC Low Density)
pins on every part: 4 V- (power), 8 V+ (power)
part A pins: 1 OUT A (out), 2 -IN A (in), 3 +IN A (in)
part B pins: 5 +IN B (in), 6 -IN B (in), 7 OUT B (out)

## LT1490CMS8#TR
designator U?
Dual Channel, Operational Amplifier, RRIO, Over-The-Top, 0.18 MHz Typical GBW, 0.06 V/us Typical SR, 2 to 44 V, 8-Pin SOP (MS8-8), Commercial, Reel; Linear Technology Part Number: LT1490A; Manufacturer: Linear Technology; PartNumber: LT1490CMS8#TR; Channels (#): 2; GBW (MHz) Typical: 0.18; Is (mA) Typical: 0.04; SR (V/us) Typical: 0.06; Vos (mV) Typical: 0.11; Vs Max (V): 44; DatasheetVersion: Rev. D; PackageVersion: Rev G; PackageReference: LT-MS8-8; PackageDescription: 8-Lead Plastic Small Outline, Body 3.9 x 4.9 mm, Pitch 1.27 mm; Packing: Reel; Type: VFB; Vs Min (V): 2; Mounting Technology: Surface Mount; ComponentLink1Description: Manufacturer URL; ComponentLink1URL: http://www.linear.com/; ComponentLink2Description: Datasheet; ComponentLink2URL: http://cds.linear.com/docs/en/datasheet/14901afd.pdf; ComponentLink3Description: Package Specification; ComponentLink3URL: http://cds.linear.com/docs/en/packaging/05081610_G_SO8.pdf
footprint LT-MS8-8_N (SOP, 8-Leads, Body 3x3mm, Pitch 0.65mm, IPC Medium Density)
footprint LT-MS8-8_L (SOP, 8-Leads, Body 3x3mm, Pitch 0.65mm, IPC High Density)
footprint LT-MS8-8_M (SOP, 8-Leads, Body 3x3mm, Pitch 0.65mm, IPC Low Density)
pins on every part: 4 V- (power), 8 V+ (power)
part A pins: 1 OUT A (out), 2 -IN A (in), 3 +IN A (in)
part B pins: 5 +IN B (in), 6 -IN B (in), 7 OUT B (out)

## LT1490CMS8#TRPBF
designator U?
Dual Channel, Operational Amplifier, RRIO, Over-The-Top, 0.18 MHz Typical GBW, 0.06 V/us Typical SR, 2 to 44 V, 8-Pin SOP (MS8-8), Commercial, Pb-Free, Reel; Linear Technology Part Number: LT1490A; Manufacturer: Linear Technology; PartNumber: LT1490CMS8#TRPBF; Channels (#): 2; GBW (MHz) Typical: 0.18; Is (mA) Typical: 0.04; SR (V/us) Typical: 0.06; Vos (mV) Typical: 0.11; Vs Max (V): 44; DatasheetVersion: Rev. D; PackageVersion: Rev G; PackageReference: LT-MS8-8; PackageDescription: 8-Lead Plastic Small Outline, Body 3.9 x 4.9 mm, Pitch 1.27 mm; Supplier 1: Digi-Key; Supplier Part Number 1: LT1490CMS8#TRPBF-ND; Packing: Reel; RoHS: Pb-Free; Type: VFB; Vs Min (V): 2; Mounting Technology: Surface Mount; ComponentLink1Description: Manufacturer URL; ComponentLink1URL: http://www.linear.com/; ComponentLink2Description: Datasheet; ComponentLink2URL: http://cds.linear.com/docs/en/datasheet/14901afd.pdf; ComponentLink3Description: Package Specification; ComponentLink3URL: http://cds.linear.com/docs/en/packaging/05081610_G_SO8.pdf
footprint LT-MS8-8_N (SOP, 8-Leads, Body 3x3mm, Pitch 0.65mm, IPC Medium Density)
footprint LT-MS8-8_L (SOP, 8-Leads, Body 3x3mm, Pitch 0.65mm, IPC High Density)
footprint LT-MS8-8_M (SOP, 8-Leads, Body 3x3mm, Pitch 0.65mm, IPC Low Density)
pins on every part: 4 V- (power), 8 V+ (power)
part A pins: 1 OUT A (out), 2 -IN A (in), 3 +IN A (in)
part B pins: 5 +IN B (in), 6 -IN B (in), 7 OUT B (out)

## LT1490CN8
designator U?
Dual Channel, Operational Amplifier, RRIO, Over-The-Top, 0.18 MHz Typical GBW, 0.06 V/us Typical SR, 2 to 44 V, 8-Pin DIP (N8-8), Commercial; Linear Technology Part Number: LT1490A; Manufacturer: Linear Technology; PartNumber: LT1490CN8; Channels (#): 2; GBW (MHz) Typical: 0.18; Is (mA) Typical: 0.04; SR (V/us) Typical: 0.06; Vos (mV) Typical: 0.11; Vs Max (V): 44; DatasheetVersion: Rev. D; PackageVersion: Rev I; PackageReference: LT-N8-8; PackageDescription: 8-Lead PDIP, Body 10.16 x 6.48 mm, Pitch 2.54 mm; Supplier 1: Digi-Key; Supplier Part Number 1: LT1490CN8-ND; Type: VFB; Vs Min (V): 2; Mounting Technology: Surface Mount; ComponentLink1Description: Manufacturer URL; ComponentLink1URL: http://www.linear.com/; ComponentLink2Description: Datasheet; ComponentLink2URL: http://cds.linear.com/docs/en/datasheet/14901afd.pdf; ComponentLink3Description: Package Specification; ComponentLink3URL: http://cds.linear.com/docs/en/packaging/05081510_I_N8.pdf
footprint LT-N8-8 (DIP, 8-Leads, Body 10.16x6.48mm, Pitch 2.54mm)
pins on every part: 4 V- (power), 8 V+ (power)
part A pins: 1 OUT A (out), 2 -IN A (in), 3 +IN A (in)
part B pins: 5 +IN B (in), 6 -IN B (in), 7 OUT B (out)

## LT1490CN8#PBF
designator U?
Dual Channel, Operational Amplifier, RRIO, Over-The-Top, 0.18 MHz Typical GBW, 0.06 V/us Typical SR, 2 to 44 V, 8-Pin DIP (N8-8), Commercial, Pb-Free; Linear Technology Part Number: LT1490A; Manufacturer: Linear Technology; PartNumber: LT1490CN8#PBF; Channels (#): 2; GBW (MHz) Typical: 0.18; Is (mA) Typical: 0.04; SR (V/us) Typical: 0.06; Vos (mV) Typical: 0.11; Vs Max (V): 44; DatasheetVersion: Rev. D; PackageVersion: Rev I; PackageReference: LT-N8-8; PackageDescription: 8-Lead PDIP, Body 10.16 x 6.48 mm, Pitch 2.54 mm; Supplier 1: Digi-Key; Supplier Part Number 1: LT1490CN8#PBF-ND; Supplier 2: Newark; Supplier Part Number 2: 57M4440; RoHS: Pb-Free; Type: VFB; Vs Min (V): 2; Mounting Technology: Through Hole; ComponentLink1Description: Manufacturer URL; ComponentLink1URL: http://www.linear.com/; ComponentLink2Description: Datasheet; ComponentLink2URL: http://cds.linear.com/docs/en/datasheet/14901afd.pdf; ComponentLink3Description: Package Specification; ComponentLink3URL: http://cds.linear.com/docs/en/packaging/05081510_I_N8.pdf
footprint LT-N8-8 (DIP, 8-Leads, Body 10.16x6.48mm, Pitch 2.54mm)
pins on every part: 4 V- (power), 8 V+ (power)
part A pins: 1 OUT A (out), 2 -IN A (in), 3 +IN A (in)
part B pins: 5 +IN B (in), 6 -IN B (in), 7 OUT B (out)

## LT1490CS8
designator U?
Dual Channel, Operational Amplifier, RRIO, Over-The-Top, 0.18 MHz Typical GBW, 0.06 V/us Typical SR, 2 to 44 V, 8-Pin SOIC (S8-8), Commercial; Linear Technology Part Number: LT1490A; Manufacturer: Linear Technology; PartNumber: LT1490CS8; Channels (#): 2; GBW (MHz) Typical: 0.18; Is (mA) Typical: 0.04; SR (V/us) Typical: 0.06; Vos (mV) Typical: 0.11; Vs Max (V): 44; DatasheetVersion: Rev. D; PackageVersion: Rev G; PackageReference: LT-S8-8; PackageDescription: 8-Pin Plastic Small Outline, Body 4.9 x 3.9 mm, Pitch 1.27 mm; Supplier 1: Digi-Key; Supplier Part Number 1: LT1490CS8-ND; Supplier 2: Newark; Supplier Part Number 2: 57M4441; Type: VFB; Vs Min (V): 2; Mounting Technology: Surface Mount; ComponentLink1Description: Manufacturer URL; ComponentLink1URL: http://www.linear.com/; ComponentLink2Description: Datasheet; ComponentLink2URL: http://cds.linear.com/docs/en/datasheet/14901afd.pdf; ComponentLink3Description: Package Specification; ComponentLink3URL: http://cds.linear.com/docs/en/packaging/05081610_G_SO8.pdf
footprint LT-S8-8_N (SOIC, 8-Leads, Body 4.9x3.9mm, Pitch 1.27mm, IPC Medium Density)
footprint LT-S8-8_L (SOIC, 8-Leads, Body 4.9x3.9mm, Pitch 1.27mm, IPC High Density)
footprint LT-S8-8_M (SOIC, 8-Leads, Body 4.9x3.9mm, Pitch 1.27mm, IPC Low Density)
pins on every part: 4 V- (power), 8 V+ (power)
part A pins: 1 OUT A (out), 2 -IN A (in), 3 +IN A (in)
part B pins: 5 +IN B (in), 6 -IN B (in), 7 OUT B (out)

## LT1490CS8#PBF
designator U?
Dual Channel, Operational Amplifier, RRIO, Over-The-Top, 0.18 MHz Typical GBW, 0.06 V/us Typical SR, 2 to 44 V, 8-Pin SOIC (S8-8), Commercial, Pb-Free; Linear Technology Part Number: LT1490A; Manufacturer: Linear Technology; PartNumber: LT1490CS8#PBF; Channels (#): 2; GBW (MHz) Typical: 0.18; Is (mA) Typical: 0.04; SR (V/us) Typical: 0.06; Vos (mV) Typical: 0.11; Vs Max (V): 44; DatasheetVersion: Rev. D; PackageVersion: Rev G; PackageReference: LT-S8-8; PackageDescription: 8-Pin Plastic Small Outline, Body 4.9 x 3.9 mm, Pitch 1.27 mm; Supplier 1: Digi-Key; Supplier Part Number 1: LT1490CS8#PBF-ND; Supplier 2: Farnell; Supplier Part Number 2: 2102592; Supplier 3: Newark; Supplier Part Number 3: 57M4442; RoHS: Pb-Free; Type: VFB; Vs Min (V): 2; Mounting Technology: Surface Mount; ComponentLink1Description: Manufacturer URL; ComponentLink1URL: http://www.linear.com/; ComponentLink2Description: Datasheet; ComponentLink2URL: http://cds.linear.com/docs/en/datasheet/14901afd.pdf; ComponentLink3Description: Package Specification; ComponentLink3URL: http://cds.linear.com/docs/en/packaging/05081610_G_SO8.pdf
footprint LT-S8-8_N (SOIC, 8-Leads, Body 4.9x3.9mm, Pitch 1.27mm, IPC Medium Density)
footprint LT-S8-8_L (SOIC, 8-Leads, Body 4.9x3.9mm, Pitch 1.27mm, IPC High Density)
footprint LT-S8-8_M (SOIC, 8-Leads, Body 4.9x3.9mm, Pitch 1.27mm, IPC Low Density)
pins on every part: 4 V- (power), 8 V+ (power)
part A pins: 1 OUT A (out), 2 -IN A (in), 3 +IN A (in)
part B pins: 5 +IN B (in), 6 -IN B (in), 7 OUT B (out)

## LT1490CS8#TR
designator U?
Dual Channel, Operational Amplifier, RRIO, Over-The-Top, 0.18 MHz Typical GBW, 0.06 V/us Typical SR, 2 to 44 V, 8-Pin SOIC (S8-8), Commercial, Reel; Linear Technology Part Number: LT1490A; Manufacturer: Linear Technology; PartNumber: LT1490CS8#TR; Channels (#): 2; GBW (MHz) Typical: 0.18; Is (mA) Typical: 0.04; SR (V/us) Typical: 0.06; Vos (mV) Typical: 0.11; Vs Max (V): 44; DatasheetVersion: Rev. D; PackageVersion: Rev G; PackageReference: LT-S8-8; PackageDescription: 8-Pin Plastic Small Outline, Body 4.9 x 3.9 mm, Pitch 1.27 mm; Supplier 1: Newark; Supplier Part Number 1: 57M4443; Packing: Reel; Type: VFB; Vs Min (V): 2; Mounting Technology: Surface Mount; ComponentLink1Description: Manufacturer URL; ComponentLink1URL: http://www.linear.com/; ComponentLink2Description: Datasheet; ComponentLink2URL: http://cds.linear.com/docs/en/datasheet/14901afd.pdf; ComponentLink3Description: Package Specification; ComponentLink3URL: http://cds.linear.com/docs/en/packaging/05081610_G_SO8.pdf
footprint LT-S8-8_N (SOIC, 8-Leads, Body 4.9x3.9mm, Pitch 1.27mm, IPC Medium Density)
footprint LT-S8-8_L (SOIC, 8-Leads, Body 4.9x3.9mm, Pitch 1.27mm, IPC High Density)
footprint LT-S8-8_M (SOIC, 8-Leads, Body 4.9x3.9mm, Pitch 1.27mm, IPC Low Density)
pins on every part: 4 V- (power), 8 V+ (power)
part A pins: 1 OUT A (out), 2 -IN A (in), 3 +IN A (in)
part B pins: 5 +IN B (in), 6 -IN B (in), 7 OUT B (out)

## LT1490CS8#TRPBF
designator U?
Dual Channel, Operational Amplifier, RRIO, Over-The-Top, 0.18 MHz Typical GBW, 0.06 V/us Typical SR, 2 to 44 V, 8-Pin SOIC (S8-8), Commercial, Pb-Free, Reel; Linear Technology Part Number: LT1490A; Manufacturer: Linear Technology; PartNumber: LT1490CS8#TRPBF; Channels (#): 2; GBW (MHz) Typical: 0.18; Is (mA) Typical: 0.04; SR (V/us) Typical: 0.06; Vos (mV) Typical: 0.11; Vs Max (V): 44; DatasheetVersion: Rev. D; PackageVersion: Rev G; PackageReference: LT-S8-8; PackageDescription: 8-Pin Plastic Small Outline, Body 4.9 x 3.9 mm, Pitch 1.27 mm; Supplier 1: Digi-Key; Supplier Part Number 1: LT1490CS8#TRPBF-ND; Supplier 2: Newark; Supplier Part Number 2: 57M4444; Packing: Reel; RoHS: Pb-Free; Type: VFB; Vs Min (V): 2; Mounting Technology: Surface Mount; ComponentLink1Description: Manufacturer URL; ComponentLink1URL: http://www.linear.com/; ComponentLink2Description: Datasheet; ComponentLink2URL: http://cds.linear.com/docs/en/datasheet/14901afd.pdf; ComponentLink3Description: Package Specification; ComponentLink3URL: http://cds.linear.com/docs/en/packaging/05081610_G_SO8.pdf
footprint LT-S8-8_N (SOIC, 8-Leads, Body 4.9x3.9mm, Pitch 1.27mm, IPC Medium Density)
footprint LT-S8-8_L (SOIC, 8-Leads, Body 4.9x3.9mm, Pitch 1.27mm, IPC High Density)
footprint LT-S8-8_M (SOIC, 8-Leads, Body 4.9x3.9mm, Pitch 1.27mm, IPC Low Density)
pins on every part: 4 V- (power), 8 V+ (power)
part A pins: 1 OUT A (out), 2 -IN A (in), 3 +IN A (in)
part B pins: 5 +IN B (in), 6 -IN B (in), 7 OUT B (out)

## LT1490IN8
designator U?
Dual Channel, Operational Amplifier, RRIO, Over-The-Top, 0.18 MHz Typical GBW, 0.06 V/us Typical SR, 2 to 44 V, 8-Pin DIP (N8-8), Industrial; Linear Technology Part Number: LT1490A; Manufacturer: Linear Technology; PartNumber: LT1490IN8; Channels (#): 2; GBW (MHz) Typical: 0.18; Is (mA) Typical: 0.04; SR (V/us) Typical: 0.06; Vos (mV) Typical: 0.11; Vs Max (V): 44; DatasheetVersion: Rev. D; PackageVersion: Rev I; PackageReference: LT-N8-8; PackageDescription: 8-Lead PDIP, Body 10.16 x 6.48 mm, Pitch 2.54 mm; Supplier 1: Digi-Key; Supplier Part Number 1: LT1490IN8-ND; Supplier 2: Newark; Supplier Part Number 2: 57M4445; Type: VFB; Vs Min (V): 2; Mounting Technology: Surface Mount; ComponentLink1Description: Manufacturer URL; ComponentLink1URL: http://www.linear.com/; ComponentLink2Description: Datasheet; ComponentLink2URL: http://cds.linear.com/docs/en/datasheet/14901afd.pdf; ComponentLink3Description: Package Specification; ComponentLink3URL: http://cds.linear.com/docs/en/packaging/05081510_I_N8.pdf
footprint LT-N8-8 (DIP, 8-Leads, Body 10.16x6.48mm, Pitch 2.54mm)
pins on every part: 4 V- (power), 8 V+ (power)
part A pins: 1 OUT A (out), 2 -IN A (in), 3 +IN A (in)
part B pins: 5 +IN B (in), 6 -IN B (in), 7 OUT B (out)

## LT1490IN8#PBF
designator U?
Dual Channel, Operational Amplifier, RRIO, Over-The-Top, 0.18 MHz Typical GBW, 0.06 V/us Typical SR, 2 to 44 V, 8-Pin DIP (N8-8), Industrial, Pb-Free; Linear Technology Part Number: LT1490A; Manufacturer: Linear Technology; PartNumber: LT1490IN8#PBF; Channels (#): 2; GBW (MHz) Typical: 0.18; Is (mA) Typical: 0.04; SR (V/us) Typical: 0.06; Vos (mV) Typical: 0.11; Vs Max (V): 44; DatasheetVersion: Rev. D; PackageVersion: Rev I; PackageReference: LT-N8-8; PackageDescription: 8-Lead PDIP, Body 10.16 x 6.48 mm, Pitch 2.54 mm; Supplier 1: Digi-Key; Supplier Part Number 1: LT1490IN8#PBF-ND; Supplier 2: Newark; Supplier Part Number 2: 57M4446; RoHS: Pb-Free; Type: VFB; Vs Min (V): 2; Mounting Technology: Through Hole; ComponentLink1Description: Manufacturer URL; ComponentLink1URL: http://www.linear.com/; ComponentLink2Description: Datasheet; ComponentLink2URL: http://cds.linear.com/docs/en/datasheet/14901afd.pdf; ComponentLink3Description: Package Specification; ComponentLink3URL: http://cds.linear.com/docs/en/packaging/05081510_I_N8.pdf
footprint LT-N8-8 (DIP, 8-Leads, Body 10.16x6.48mm, Pitch 2.54mm)
pins on every part: 4 V- (power), 8 V+ (power)
part A pins: 1 OUT A (out), 2 -IN A (in), 3 +IN A (in)
part B pins: 5 +IN B (in), 6 -IN B (in), 7 OUT B (out)

## LT1490IS8
designator U?
Dual Channel, Operational Amplifier, RRIO, Over-The-Top, 0.18 MHz Typical GBW, 0.06 V/us Typical SR, 2 to 44 V, 8-Pin SOIC (S8-8), Industrial; Linear Technology Part Number: LT1490A; Manufacturer: Linear Technology; PartNumber: LT1490IS8; Channels (#): 2; GBW (MHz) Typical: 0.18; Is (mA) Typical: 0.04; SR (V/us) Typical: 0.06; Vos (mV) Typical: 0.11; Vs Max (V): 44; DatasheetVersion: Rev. D; PackageVersion: Rev G; PackageReference: LT-S8-8; PackageDescription: 8-Pin Plastic Small Outline, Body 4.9 x 3.9 mm, Pitch 1.27 mm; Supplier 1: Newark; Supplier Part Number 1: 57M4447; Type: VFB; Vs Min (V): 2; Mounting Technology: Surface Mount; ComponentLink1Description: Manufacturer URL; ComponentLink1URL: http://www.linear.com/; ComponentLink2Description: Datasheet; ComponentLink2URL: http://cds.linear.com/docs/en/datasheet/14901afd.pdf; ComponentLink3Description: Package Specification; ComponentLink3URL: http://cds.linear.com/docs/en/packaging/05081610_G_SO8.pdf
footprint LT-S8-8_N (SOIC, 8-Leads, Body 4.9x3.9mm, Pitch 1.27mm, IPC Medium Density)
footprint LT-S8-8_L (SOIC, 8-Leads, Body 4.9x3.9mm, Pitch 1.27mm, IPC High Density)
footprint LT-S8-8_M (SOIC, 8-Leads, Body 4.9x3.9mm, Pitch 1.27mm, IPC Low Density)
pins on every part: 4 V- (power), 8 V+ (power)
part A pins: 1 OUT A (out), 2 -IN A (in), 3 +IN A (in)
part B pins: 5 +IN B (in), 6 -IN B (in), 7 OUT B (out)

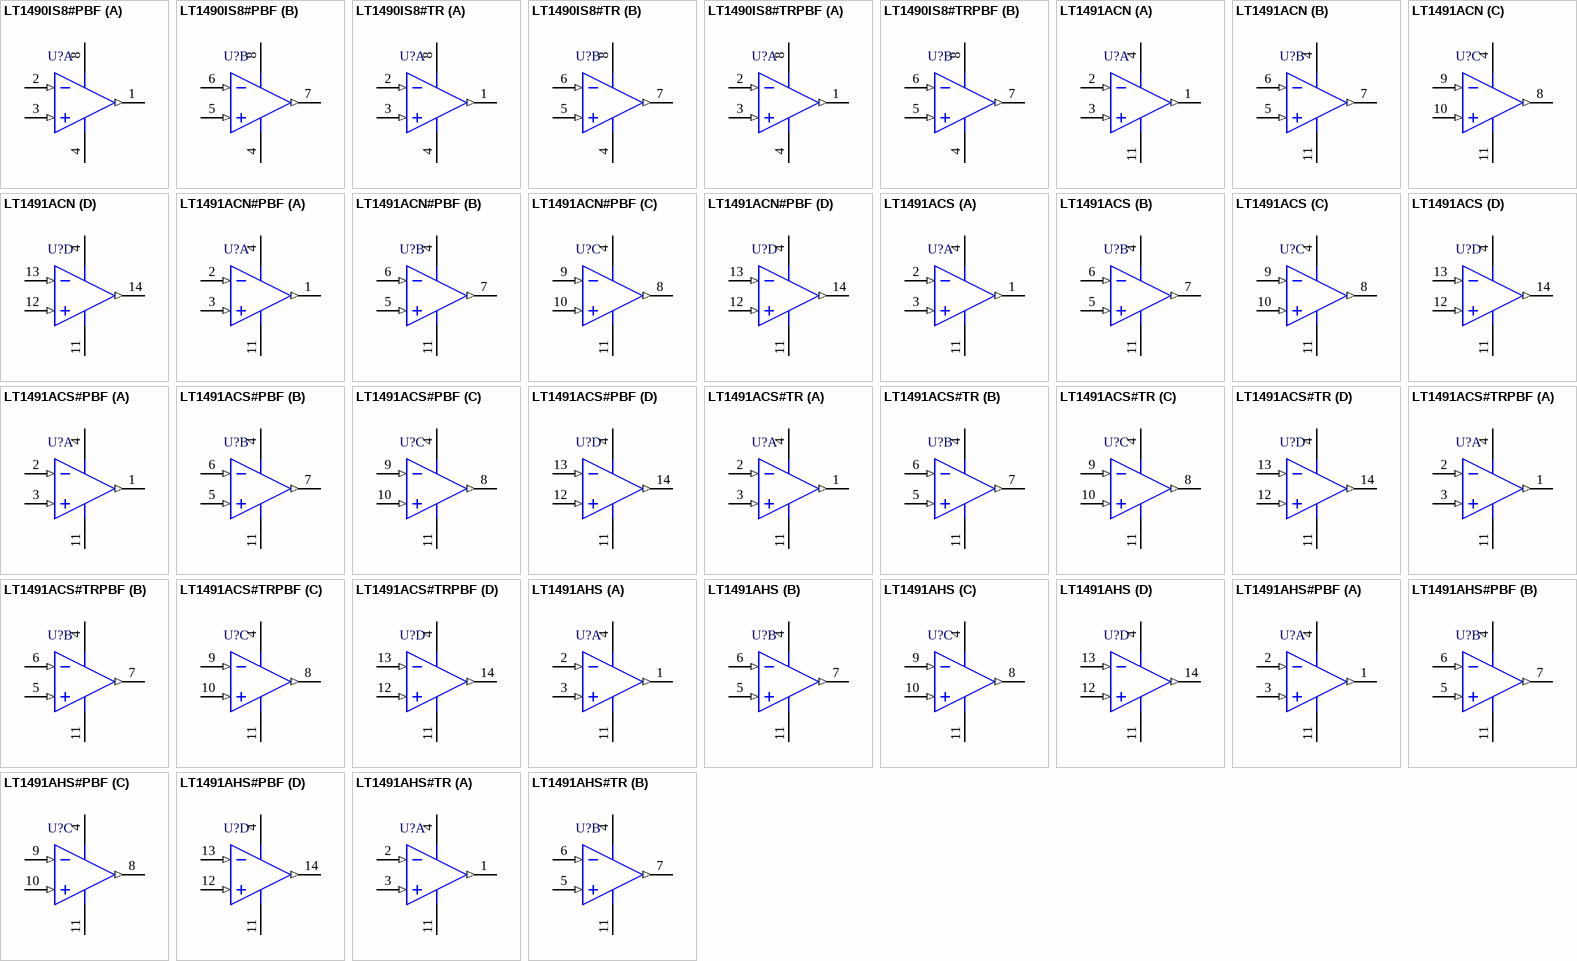
[diagram p45: symbols LT1490IS8#PBF to LT1491AHS#TR]

## LT1490IS8#PBF
designator U?
Dual Channel, Operational Amplifier, RRIO, Over-The-Top, 0.18 MHz Typical GBW, 0.06 V/us Typical SR, 2 to 44 V, 8-Pin SOIC (S8-8), Industrial, Pb-Free; Linear Technology Part Number: LT1490A; Manufacturer: Linear Technology; PartNumber: LT1490IS8#PBF; Channels (#): 2; GBW (MHz) Typical: 0.18; Is (mA) Typical: 0.04; SR (V/us) Typical: 0.06; Vos (mV) Typical: 0.11; Vs Max (V): 44; DatasheetVersion: Rev. D; PackageVersion: Rev G; PackageReference: LT-S8-8; PackageDescription: 8-Pin Plastic Small Outline, Body 4.9 x 3.9 mm, Pitch 1.27 mm; Supplier 1: Digi-Key; Supplier Part Number 1: LT1490IS8#PBF-ND; Supplier 2: Farnell; Supplier Part Number 2: 1663435; Supplier 3: Newark; Supplier Part Number 3: 57M4448; RoHS: Pb-Free; Type: VFB; Vs Min (V): 2; Mounting Technology: Surface Mount; ComponentLink1Description: Manufacturer URL; ComponentLink1URL: http://www.linear.com/; ComponentLink2Description: Datasheet; ComponentLink2URL: http://cds.linear.com/docs/en/datasheet/14901afd.pdf; ComponentLink3Description: Package Specification; ComponentLink3URL: http://cds.linear.com/docs/en/packaging/05081610_G_SO8.pdf
footprint LT-S8-8_N (SOIC, 8-Leads, Body 4.9x3.9mm, Pitch 1.27mm, IPC Medium Density)
footprint LT-S8-8_L (SOIC, 8-Leads, Body 4.9x3.9mm, Pitch 1.27mm, IPC High Density)
footprint LT-S8-8_M (SOIC, 8-Leads, Body 4.9x3.9mm, Pitch 1.27mm, IPC Low Density)
pins on every part: 4 V- (power), 8 V+ (power)
part A pins: 1 OUT A (out), 2 -IN A (in), 3 +IN A (in)
part B pins: 5 +IN B (in), 6 -IN B (in), 7 OUT B (out)

## LT1490IS8#TR
designator U?
Dual Channel, Operational Amplifier, RRIO, Over-The-Top, 0.18 MHz Typical GBW, 0.06 V/us Typical SR, 2 to 44 V, 8-Pin SOIC (S8-8), Industrial, Reel; Linear Technology Part Number: LT1490A; Manufacturer: Linear Technology; PartNumber: LT1490IS8#TR; Channels (#): 2; GBW (MHz) Typical: 0.18; Is (mA) Typical: 0.04; SR (V/us) Typical: 0.06; Vos (mV) Typical: 0.11; Vs Max (V): 44; DatasheetVersion: Rev. D; PackageVersion: Rev G; PackageReference: LT-S8-8; PackageDescription: 8-Pin Plastic Small Outline, Body 4.9 x 3.9 mm, Pitch 1.27 mm; Packing: Reel; Type: VFB; Vs Min (V): 2; Mounting Technology: Surface Mount; ComponentLink1Description: Manufacturer URL; ComponentLink1URL: http://www.linear.com/; ComponentLink2Description: Datasheet; ComponentLink2URL: http://cds.linear.com/docs/en/datasheet/14901afd.pdf; ComponentLink3Description: Package Specification; ComponentLink3URL: http://cds.linear.com/docs/en/packaging/05081610_G_SO8.pdf
footprint LT-S8-8_N (SOIC, 8-Leads, Body 4.9x3.9mm, Pitch 1.27mm, IPC Medium Density)
footprint LT-S8-8_L (SOIC, 8-Leads, Body 4.9x3.9mm, Pitch 1.27mm, IPC High Density)
footprint LT-S8-8_M (SOIC, 8-Leads, Body 4.9x3.9mm, Pitch 1.27mm, IPC Low Density)
pins on every part: 4 V- (power), 8 V+ (power)
part A pins: 1 OUT A (out), 2 -IN A (in), 3 +IN A (in)
part B pins: 5 +IN B (in), 6 -IN B (in), 7 OUT B (out)